# Altium schematic symbol library Connectors.SchLib: 20 symbols
Pins are listed as number, name and electrical type; pins without a type are passive.

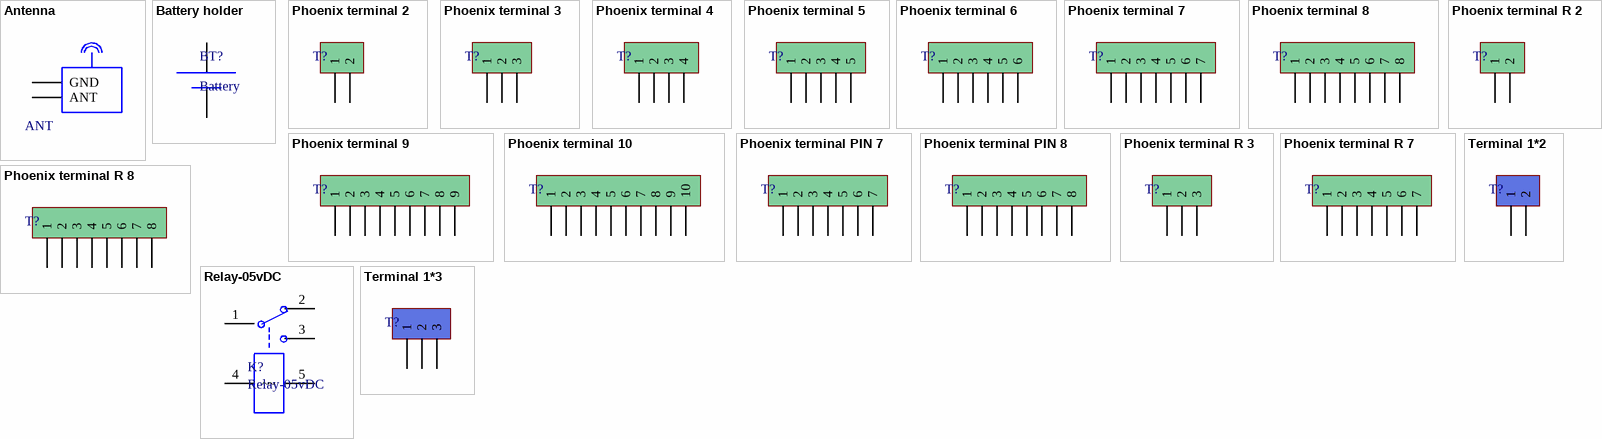
[diagram p0: symbols Antenna to Terminal 1*3]

## Antenna
designator ANT  (value not drawn)
Right RF Antenna; Designer: Seyed Mohsen Ghasemian; E-mail: picpars@gmail.com; ComponentLinkURL: www.picpars.com; Make: 11/22/2013
footprint ANT-R-RF (Antenna; Right; RF;)
pins: 1 GND, 2 ANT

## Battery holder
designator BT?, comment Battery
Battery holder CR2032; Designer: Seyed Mohsen Ghasemian; E-mail: picpars@gmail.com; ComponentLinkURL: www.picpars.com; Make: 02/12/2011
footprint CR2032 (Battery holder)
pins: 0 +, 1 -

## Phoenix terminal 2
designator T?, comment Phoenix terminal  (value not drawn)
Terminal 2 Pin; Designer: Seyed Mohsen Ghasemain; E-mail: picpars@gmail.com; ComponentLinkURL: www.picpars.com
footprint phoenix terminal 2 (2 terminals)
pins: 1, 2

## Phoenix terminal 3
designator T?, comment Phoenix terminal  (value not drawn)
Terminal 3 Pin; Designer: Seyed Mohsen Ghasemain; E-mail: picpars@gmail.com; ComponentLinkURL: www.picpars.com
footprint phoenix terminal 3 (3 terminals)
pins: 1, 2, 3

## Phoenix terminal 4
designator T?, comment Phoenix terminal  (value not drawn)
Terminal 4 Pin; Designer: Seyed Mohsen Ghasemain; E-mail: picpars@gmail.com; ComponentLinkURL: www.picpars.com
footprint phoenix terminal 4 (4 terminals)
pins: 1, 2, 3, 4

## Phoenix terminal 5
designator T?, comment Phoenix terminal  (value not drawn)
Terminal 5 Pin; Designer: Seyed Mohsen Ghasemain; E-mail: picpars@gmail.com; ComponentLinkURL: www.picpars.com
footprint phoenix terminal 5 (5 terminals)
pins: 1, 2, 3, 4, 5

## Phoenix terminal 6
designator T?, comment Phoenix terminal  (value not drawn)
Terminal 6 Pin; Designer: Seyed Mohsen Ghasemain; E-mail: picpars@gmail.com; ComponentLinkURL: www.picpars.com
footprint phoenix terminal 6 (6 terminals)
pins: 1, 2, 3, 4, 5, 6

## Phoenix terminal 7
designator T?, comment Phoenix terminal  (value not drawn)
Terminal 7 Pin; Designer: Seyed Mohsen Ghasemain; E-mail: picpars@gmail.com; ComponentLinkURL: www.picpars.com
footprint phoenix terminal 7 (7 terminals)
pins: 1, 2, 3, 4, 5, 6, 7

## Phoenix terminal 8
designator T?, comment Phoenix terminal  (value not drawn)
Terminal 8 Pin; Designer: Seyed Mohsen Ghasemain; E-mail: picpars@gmail.com; ComponentLinkURL: www.picpars.com
footprint phoenix terminal 8 (8 terminals)
pins: 1, 2, 3, 4, 5, 6, 7, 8

## Phoenix terminal 9
designator T?, comment Phoenix terminal  (value not drawn)
Terminal 9 Pin; Designer: Seyed Mohsen Ghasemain; E-mail: picpars@gmail.com; ComponentLinkURL: www.picpars.com
footprint phoenix terminal 9 (9 terminals)
pins: 1, 2, 3, 4, 5, 6, 7, 8, 9

## Phoenix terminal 10
designator T?, comment Phoenix terminal  (value not drawn)
Terminal 10 Pin; Designer: Seyed Mohsen Ghasemain; E-mail: picpars@gmail.com; ComponentLinkURL: www.picpars.com
footprint phoenix terminal 10 (10 terminals)
pins: 1, 2, 3, 4, 5, 6, 7, 8, 9, 10

## Phoenix terminal PIN 7
designator T?, comment Phoenix terminal  (value not drawn)
Terminal 7 Pin; Designer: Seyed Mohsen Ghasemain; E-mail: picpars@gmail.com; ComponentLinkURL: www.picpars.com
footprint phoenix terminal PIN 7 (7 terminals)
pins: 1, 2, 3, 4, 5, 6, 7

## Phoenix terminal PIN 8
designator T?, comment Phoenix terminal  (value not drawn)
Terminal 8 Pin; Designer: Seyed Mohsen Ghasemain; E-mail: picpars@gmail.com; ComponentLinkURL: www.picpars.com
footprint phoenix terminal PIN 8 (8 terminals)
pins: 1, 2, 3, 4, 5, 6, 7, 8

## Phoenix terminal R 2
designator T?, comment Phoenix terminal  (value not drawn)
Right Terminal 2 Pin; Designer: Seyed Mohsen Ghasemain; E-mail: picpars@gmail.com; ComponentLinkURL: www.picpars.com
footprint phoenix terminal R 2 (2 Right terminals)
pins: 1, 2

## Phoenix terminal R 3
designator T?, comment Phoenix terminal  (value not drawn)
Right Terminal 3 Pin; Designer: Seyed Mohsen Ghasemain; E-mail: picpars@gmail.com; ComponentLinkURL: www.picpars.com
footprint phoenix terminal R 3 (3 Right terminals)
pins: 1, 2, 3

## Phoenix terminal R 7
designator T?, comment Phoenix terminal  (value not drawn)
Right Terminal 7 Pin; Designer: Seyed Mohsen Ghasemain; E-mail: picpars@gmail.com; ComponentLinkURL: www.picpars.com
footprint phoenix terminal R 7 (7 Right terminals)
pins: 1, 2, 3, 4, 5, 6, 7

## Phoenix terminal R 8
designator T?, comment Phoenix terminal  (value not drawn)
Right Terminal 8 Pin; Designer: Seyed Mohsen Ghasemain; E-mail: picpars@gmail.com; ComponentLinkURL: www.picpars.com
footprint phoenix terminal R 8 (8 Right terminals)
pins: 1, 2, 3, 4, 5, 6, 7, 8

## Relay-05vDC
designator K?
Relay-05vDC-240AC 5A; Designer: Seyed Mohsen Ghasemain; ComponentLinkURL: www.picpars.com
footprint Relays
pins: 1 COM, 2 NC, 3 NO, 4 ~, 5 ~

## Terminal 1*2
designator T?, comment Terminal  (value not drawn)
Terminal 2 Pin 250VAC 16A; Designer: Seyed Mohsen Ghasemain; E-mail: picpars@gmail.com; ComponentLinkURL: www.picpars.com
footprint Terminal 1*2
pins: 1, 2

## Terminal 1*3
designator T?, comment Terminal  (value not drawn)
Terminal 3 Pin 250VAC 16A; Designer: Seyed Mohsen Ghasemain; E-mail: picpars@gmail.com; ComponentLinkURL: www.picpars.com
footprint Terminal 1*3
pins: 1, 2, 3